# Altium schematic symbol library daniel_schlib.schlib: 12 symbols
Pins are listed as number, name and electrical type; pins without a type are passive.

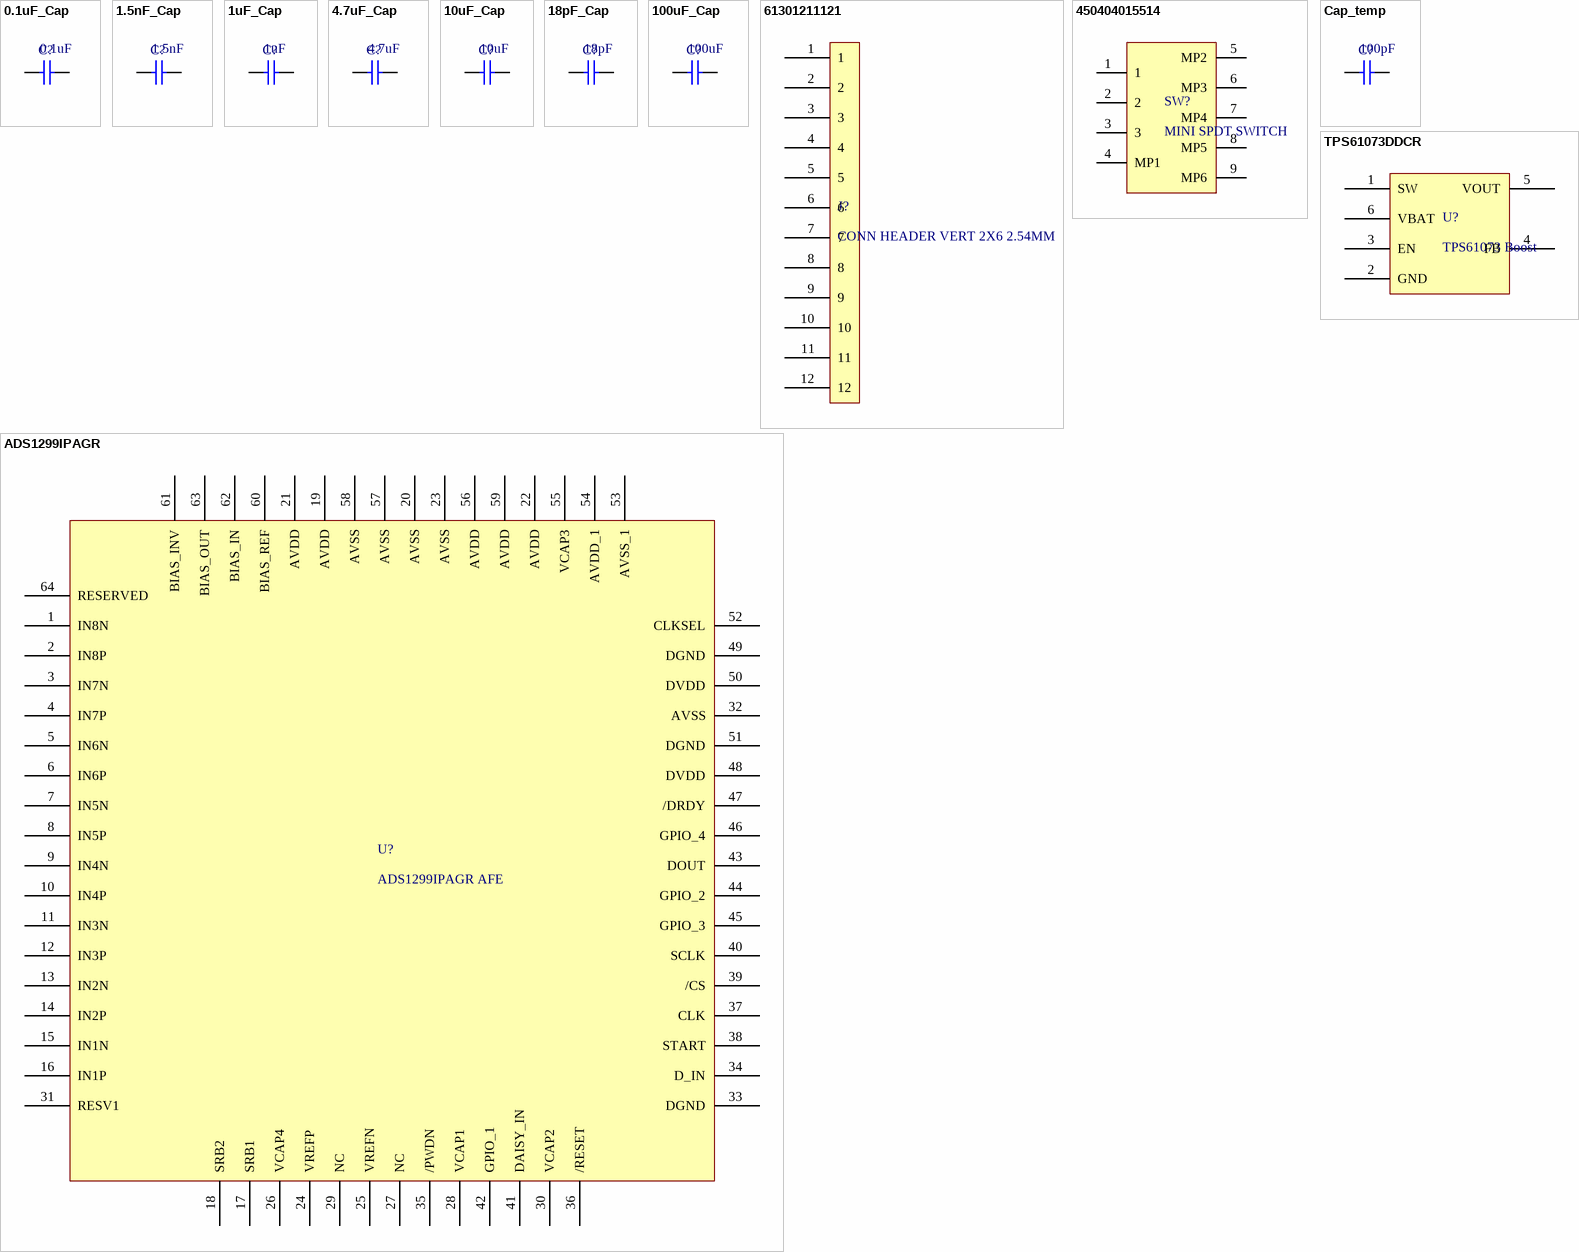
[diagram p0: symbols 0.1uF_Cap to TPS61073DDCR]

## 0.1uF_Cap
designator C?  value 0.1uF
0402 Cap 0.1uF; Manufacturer: Samsung; Manufacturer Part Number: CL05A104KP5NNNC; Capacitance: 100nF; Tolerance: 10%; Voltage Rating: 10V; Dielectric: X5R; Supplier 1: Digi-Key; Stock 1: 12307534; Pricing 1: 1=0.1, 10=0.025, 100=0.0111, 500=0.00794, 1000=0.00624, 2500=0.00568, 5000=0.00522 (USD); Mount: Surface Mount; Case/Package: 0402; Case Code (Metric): 1005; Case Code (Imperial): 0402; Contact Plating: Tin; Min Operating Temperature: -55°C; Max Operating Temperature: 85°C; Packaging: Tape and Reel; Length: 1mm; Height: 0.5mm; Width: 0.02inch; Thickness: 0.022inch; Depth: 0.5mm; Radiation Hardening: No; ComponentLink1URL: https://media.digikey.com/pdf/Data%20Sheets/Samsung%20PDFs/CL_Series_MLCC_ds.pdf?src-supplier=Digi-Key; ComponentLink1Description: https://media.digikey.com/pdf/Data%20Sheets/Samsung%20PDFs/CL_Series_MLCC_ds.pdf?src-supplier=Digi-Key; ComponentLink2URL: https://www.verical.com/server-webapp/html/getDatasheet?partID=358611&src-supplier=Verical; ComponentLink2Description: https://www.verical.com/server-webapp/html/getDatasheet?partID=358611&src-supplier=Verical; ComponentLink3URL: http://www1.futureelectronics.com/doc/SAMSUNG%20PASSIVE/CL05B104KQ5NNNC.pdf?src-supplier=Future+Electronics; ComponentLink3Description: http://www1.futureelectronics.com/doc/SAMSUNG%20PASSIVE/CL05B104KQ5NNNC.pdf?src-supplier=Future+Electronics; ComponentLink4URL: https://www.distrelec.biz/Web/Downloads/_e/ng/MLCC_CatalogDownload2013_ENG.pdf?mime=application%2Fpdf&src-supplier=Distrelec; ComponentLink4Description: https://www.distrelec.biz/Web/Downloads/_e/ng/MLCC_CatalogDownload2013_ENG.pdf?mime=application%2Fpdf&src-supplier=Distrelec; Supplier Part Number 1: 1276-1022-6-ND
simulation model CAP (Capacitor)
signal-integrity model Cap
footprint 0402resistor
pins: 1, 2

## 1.5nF_Cap
designator C?  value 1.5nF
0402 Cap 1.5nF; Manufacturer: Samsung; Manufacturer Part Number: CL05B152KB5NNNC; Material: Ceramic; Tolerance: 10%; Voltage Rating: 50V; Dielectric: X7R; Supplier 1: Digi-Key; Stock 1: 658330; Pricing 1: 1=0.1, 10=0.023, 100=0.0101, 500=0.0072, 1000=0.00566, 2500=0.00514, 5000=0.00473 (USD); Mount: Surface Mount; Case/Package: 0402; Case Code (Metric): 1005; Case Code (Imperial): 0402; Contact Plating: Tin; Min Operating Temperature: -55°C; Max Operating Temperature: 125°C; Package Quantity: 1; Packaging: Tape and Reel; Capacitance: 1.5nF; Voltage: 50V; Length: 1mm; Height: 0.5mm; Width: 0.02inch; Thickness: 0.022inch; Depth: 0.5mm; Radiation Hardening: No; ComponentLink1URL: https://www.verical.com/server-webapp/html/getDatasheet?partID=543173&src-supplier=Verical; ComponentLink1Description: https://www.verical.com/server-webapp/html/getDatasheet?partID=543173&src-supplier=Verical; ComponentLink2URL: http://www1.futureelectronics.com/doc/SAMSUNG/CL05B152KB5NNNC.pdf?src-supplier=Future+Electronics; ComponentLink2Description: http://www1.futureelectronics.com/doc/SAMSUNG/CL05B152KB5NNNC.pdf?src-supplier=Future+Electronics; ComponentLink3URL: https://www.distrelec.biz/Web/Downloads/_e/ng/MLCC_CatalogDownload2013_ENG.pdf?mime=application%2Fpdf&src-supplier=Distrelec; ComponentLink3Description: https://www.distrelec.biz/Web/Downloads/_e/ng/MLCC_CatalogDownload2013_ENG.pdf?mime=application%2Fpdf&src-supplier=Distrelec; ComponentLink4URL: https://produktinfo.conrad.com/datenblaetter/450000-474999/459134-da-01-en-VS_KONDENSATOR_0402.pdf?src-supplier=Conrad; ComponentLink4Description: https://produktinfo.conrad.com/datenblaetter/450000-474999/459134-da-01-en-VS_KONDENSATOR_0402.pdf?src-supplier=Conrad; Supplier Part Number 1: 1276-1521-6-ND
simulation model CAP (Capacitor)
signal-integrity model Cap
footprint 0402resistor
pins: 1, 2

## 1uF_Cap
designator C?  value 1uF
0402 Cap 1uF; Manufacturer: Murata; Manufacturer Part Number: GRM153R61A105ME95D; Material: Ceramic; Tolerance: 20%; Voltage Rating: 10V; Dielectric: X5R; Supplier 1: Digi-Key; Stock 1: 43822; Pricing 1: 1=0.19, 10=0.131, 100=0.0663, 500=0.04538, 1000=0.04015, 2500=0.0384, 5000=0.03491 (USD); Mount: Surface Mount; Case/Package: 0402; Weight: 0.000212oz; Case Code (Metric): 1005; Case Code (Imperial): 0402; Min Operating Temperature: -55°C; Max Operating Temperature: 85°C; Capacitance: 1uF; Packaging: Tape and Reel; Termination: SMD/SMT; Composition: Ceramic; Voltage Rating (DC): 10V; Package Quantity: 10000; Length: 1mm; Height: 0.3mm; Width: 0.5mm; Thickness: 0.013inch; REACH SVHC: No SVHC; ComponentLink1URL: http://www.farnell.com/datasheets/1666664.pdf?src-supplier=Element14; ComponentLink1Description: http://www.farnell.com/datasheets/1666664.pdf?src-supplier=Element14; Supplier Part Number 1: 490-14577-6-ND
simulation model CAP (Capacitor)
signal-integrity model Cap
footprint 0402resistor
pins: 1, 2

## 4.7uF_Cap
designator C?  value 4.7uF
0402 Cap 4.7uF; Manufacturer: Murata; Manufacturer Part Number: GRM155R61A475MEAAD; Tolerance: 20%; Voltage Rating: 10V; Supplier 1: Digi-Key; Stock 1: 848000; Pricing 1: 1=0.25, 10=0.169, 100=0.0856, 500=0.05854, 1000=0.05179, 2500=0.04954, 5000=0.04503 (USD); Mount: Surface Mount; Case/Package: 0402; Case Code (Imperial): 0402; Case Code (Metric): 1005; Min Operating Temperature: -55°C; Max Operating Temperature: 85°C; Packaging: Tape and Reel; Capacitance: 4.7uF; ComponentLink1URL: http://www.farnell.com/datasheets/2189109.pdf?src-supplier=Farnell; ComponentLink1Description: http://www.farnell.com/datasheets/2189109.pdf?src-supplier=Farnell; ComponentLink2URL: https://search.murata.co.jp/Ceramy/image/img/A01X/G101/ENG/GRM155R61A475MEAA-01.pdf?src-supplier=Digi-Key; ComponentLink2Description: https://search.murata.co.jp/Ceramy/image/img/A01X/G101/ENG/GRM155R61A475MEAA-01.pdf?src-supplier=Digi-Key; ComponentLink3URL: http://www.farnell.com/datasheets/2189109.pdf?src-supplier=Element14; ComponentLink3Description: http://www.farnell.com/datasheets/2189109.pdf?src-supplier=Element14; ComponentLink4URL: http://www.farnell.com/datasheets/2189109.pdf?src-supplier=Newark; ComponentLink4Description: http://www.farnell.com/datasheets/2189109.pdf?src-supplier=Newark; ComponentLink5URL: http://datasheet.octopart.com/GRM155R61A475MEAAD-Murata-datasheet-138740730.pdf?src-supplier=Ciiva+Crawler; ComponentLink5Description: http://datasheet.octopart.com/GRM155R61A475MEAAD-Murata-datasheet-138740730.pdf?src-supplier=Ciiva+Crawler; ComponentLink6URL: http://datasheet.octopart.com/GRM155R61A475MEAAD-Murata-datasheet-68589269.pdf?src-supplier=Newark; ComponentLink6Description: http://datasheet.octopart.com/GRM155R61A475MEAAD-Murata-datasheet-68589269.pdf?src-supplier=Newark; ComponentLink7URL: http://datasheet.octopart.com/GRM155R61A475MEAAD-Murata-datasheet-8819587.pdf; ComponentLink7Description: http://datasheet.octopart.com/GRM155R61A475MEAAD-Murata-datasheet-8819587.pdf; ComponentLink8URL: http://datasheet.octopart.com/GRM155R61A475MEAAD-Murata-datasheet-10025737.pdf; ComponentLink8Description: http://datasheet.octopart.com/GRM155R61A475MEAAD-Murata-datasheet-10025737.pdf; ComponentLink9URL: http://datasheet.octopart.com/GRM155R61A475MEAAD-Murata-datasheet-11978611.pdf; ComponentLink9Description: http://datasheet.octopart.com/GRM155R61A475MEAAD-Murata-datasheet-11978611.pdf; ComponentLink10URL: http://datasheet.octopart.com/GRM155R61A475MEAAD-Murata-datasheet-12510076.pdf; ComponentLink10Description: http://datasheet.octopart.com/GRM155R61A475MEAAD-Murata-datasheet-12510076.pdf; ComponentLink11URL: http://datasheet.octopart.com/GRM155R61A475MEAAD-Murata-datasheet-12515295.pdf; ComponentLink11Description: http://datasheet.octopart.com/GRM155R61A475MEAAD-Murata-datasheet-12515295.pdf; Supplier Part Number 1: 490-14306-6-ND
simulation model CAP (Capacitor)
signal-integrity model Cap
footprint 0402resistor
pins: 1, 2

## 10uF_Cap
designator C?  value 10uF
0402 Cap 10uF; Manufacturer: Samsung; Manufacturer Part Number: CL05A106MP5NUNC; Tolerance: 20%; Voltage Rating: 10V; Dielectric: X5R; Supplier 1: Digi-Key; Stock 1: 3276370; Pricing 1: 1=0.42, 10=0.295, 100=0.1943, 500=0.14392, 1000=0.12233, 2500=0.11514, 5000=0.10794 (USD); Mount: Surface Mount; Case/Package: 0402; Case Code (Metric): 1005; Case Code (Imperial): 0402; Contact Plating: Tin; Min Operating Temperature: -55°C; Max Operating Temperature: 85°C; Package Quantity: 1; Packaging: Tape and Reel; Capacitance: 10uF; Termination: Wraparound; Length: 1mm; Width: 0.02inch; Thickness: 0.028inch; Depth: 0.5mm; Radiation Hardening: No; Lead Free: Lead Free; ComponentLink1URL: https://media.digikey.com/pdf/Data%20Sheets/Samsung%20PDFs/CL_Series_MLCC_ds.pdf?src-supplier=Digi-Key; ComponentLink1Description: https://media.digikey.com/pdf/Data%20Sheets/Samsung%20PDFs/CL_Series_MLCC_ds.pdf?src-supplier=Digi-Key; ComponentLink2URL: https://www.verical.com/server-webapp/html/getDatasheet?partID=745310&src-supplier=Verical; ComponentLink2Description: https://www.verical.com/server-webapp/html/getDatasheet?partID=745310&src-supplier=Verical; Supplier Part Number 1: 1276-1450-6-ND
simulation model CAP (Capacitor)
signal-integrity model Cap
footprint 0402resistor
pins: 1, 2

## 18pF_Cap
designator C?  value 18pF
0402 Cap 18pF; Manufacturer: KEMET; Manufacturer Part Number: C0402C180K5RAC7867; Supplier 1: Digi-Key; Stock 1: 3569; Pricing 1: 1=0.21, 10=0.142, 100=0.0721, 500=0.04934, 1000=0.04364, 2500=0.04174, 5000=0.03795 (USD); Supplier Part Number 1: 399-19371-6-ND; ComponentLink1Description: digikey link; ComponentLink1URL: https://www.digikey.ca/product-detail/en/kemet/C0402C180K5RAC7867/399-19371-1-ND/9694278
simulation model CAP (Capacitor)
signal-integrity model Cap
footprint 0402resistor
pins: 1, 2

## 100uF_Cap
designator C?  value 100uF
1206 Cap 100uF; Manufacturer: Murata; Manufacturer Part Number: GRM31CR60J107ME39L; Material: Ceramic; Tolerance: 20%; Voltage Rating: 6.3V; Dielectric: X5R; Supplier 1: Digi-Key; Stock 1: 1307168; Pricing 1: 1=1.08, 10=0.852, 100=0.6386, 500=0.48254, 1000=0.42577 (USD); Mount: Surface Mount; Case/Package: 1206; Case Code (Imperial): 1206; Case Code (Metric): 3216; Min Operating Temperature: -55°C; Max Operating Temperature: 85°C; Capacitance: 100uF; Packaging: Tape and Reel; Voltage Rating (DC): 6.3V; Package Quantity: 1; Termination: SMD/SMT; Voltage: 6.3V; Length: 3.2mm; Height: 1.6mm; Width: 1.6mm; Thickness: 0.071inch; Depth: 1.6mm; Radiation Hardening: No; REACH SVHC: No SVHC; Lead Free: Lead Free; ComponentLink1URL: http://uk.rs-online.com/webdocs/1388/0900766b813885c5.pdf?src-supplier=RSComponents; ComponentLink1Description: http://uk.rs-online.com/webdocs/1388/0900766b813885c5.pdf?src-supplier=RSComponents; ComponentLink2URL: http://components.arrow.com/part/dataview/42788059S8888100N2606?src-supplier=Arrow; ComponentLink2Description: http://components.arrow.com/part/dataview/42788059S8888100N2606?src-supplier=Arrow; ComponentLink3URL: http://www.mouser.com/ds/2/281/c02e-2905.pdf?src-supplier=Mouser; ComponentLink3Description: http://www.mouser.com/ds/2/281/c02e-2905.pdf?src-supplier=Mouser; ComponentLink4URL: https://www.murata.com/~/media/webrenewal/support/library/catalog/products/capacitor/mlcc/c02e.ashx?la=en-us&src-supplier=Digi-Key; ComponentLink4Description: https://www.murata.com/~/media/webrenewal/support/library/catalog/products/capacitor/mlcc/c02e.ashx?la=en-us&src-supplier=Digi-Key; ComponentLink5URL: http://psearch.murata.com/capacitor/product/GRM31CF51A226ZE01%23.pdf?src-supplier=Future+Electronics; ComponentLink5Description: http://psearch.murata.com/capacitor/product/GRM31CF51A226ZE01%23.pdf?src-supplier=Future+Electronics; ComponentLink6URL: https://www.distrelec.biz/Web/Downloads/_t/ds/murata_MLCC_eng_tds.pdf?mime=application%2Fpdf&src-supplier=Distrelec; ComponentLink6Description: https://www.distrelec.biz/Web/Downloads/_t/ds/murata_MLCC_eng_tds.pdf?mime=application%2Fpdf&src-supplier=Distrelec; ComponentLink7URL: http://www.produktinfo.conrad.com/datenblaetter/450000-474999/454804-da-01-en-VS_KONDENSATOR_1206.pdf?src-supplier=Conrad; ComponentLink7Description: http://www.produktinfo.conrad.com/datenblaetter/450000-474999/454804-da-01-en-VS_KONDENSATOR_1206.pdf?src-supplier=Conrad; ComponentLink8URL: http://www.produktinfo.conrad.com/datenblaetter/450000-474999/451152-da-01-de-VS_CHIP_KOND_1206_100_0_UF_20Pr_6_3V_X5R.pdf?src-supplier=Conrad; ComponentLink8Description: http://www.produktinfo.conrad.com/datenblaetter/450000-474999/451152-da-01-de-VS_CHIP_KOND_1206_100_0_UF_20Pr_6_3V_X5R.pdf?src-supplier=Conrad; Supplier Part Number 1: 490-4539-6-ND
simulation model CAP (Capacitor)
signal-integrity model Cap
footprint 1206resistor
pins: 1, 2

## 61301211121
designator J?, comment CONN HEADER VERT 2X6 2.54MM
WURTH ELEKTRONIK         61301211121            Board-To-Board Connector, Vertical, WR-PHD Series, Through Hole, Header, 12 Contacts, 2.54 mm; Manufacturer: Wurth Electronics; Number of Positions: 12; Gender: Male; Connector Type: Male Pin; Pitch: 0.1inch; Supplier 1: Digi-Key; Manufacturer Part Number: 61301211121; Stock 1: 334; Pricing 1: 1=0.54, 10=0.454, 25=0.3792, 50=0.316, 100=0.287, 1000=0.261 (USD); Mount: Through Hole; Contact Plating: Gold; Contact Material: Copper; Color: Black; Number of Rows: 1; Packaging: Bulk; Termination: Solder; Number of Contacts: 12; Contact Mating Length: 0.236inch; REACH SVHC: Unknown; ComponentLink1URL: http://www.farnell.com/cad/1737268.pdf?src-supplier=Element14; ComponentLink1Description: http://www.farnell.com/cad/1737268.pdf?src-supplier=Element14; ComponentLink2URL: https://katalog.we-online.de/em/datasheet/6130xx11121.pdf?src-supplier=Digi-Key; ComponentLink2Description: https://katalog.we-online.de/em/datasheet/6130xx11121.pdf?src-supplier=Digi-Key; Supplier Part Number 1: 732-5323-ND
footprint HDR1X12
pins: 1, 2, 3, 4, 5, 6, 7, 8, 9, 10, 11, 12

## 450404015514
designator SW?, comment MINI SPDT SWITCH
MINI SPDT SLIDE SWITCH 6.7 X 2.7 MM / PINS 4-9 ARE MOUNTING; Manufacturer: Wurth Electronics; Manufacturer Part Number: 450404015514; Supplier 1: Digi-Key; Stock 1: 2610; Pricing 1: 1=0.75, 25=0.7212, 50=0.688, 250=0.622, 1500=0.5461 (USD); Supplier Part Number 1: 732-13665-6-ND; ComponentLink1Description: digikey; ComponentLink1URL: https://www.digikey.ca/product-detail/en/w-rth-elektronik/450404015514/732-13665-1-ND/9950835
footprint SW_SPDT
pins: 1, 2, 3, 4 MP1, 5 MP2, 6 MP3, 7 MP4, 8 MP5, 9 MP6

## ADS1299IPAGR
designator U?, comment ADS1299IPAGR AFE
IC AFE 24BIT 16KSPS LN 64TQFP; Manufacturer: Texas Instruments; Max Supply Voltage: 5.25V; Max Power Dissipation: 42mW; Interface: SPI; Number of Bits: 24; Number of Channels: 8; Resolution: 24b; Sampling Rate: 16KS/s; Operating Supply Current: 7.14mA; Signal to Noise Ratio (SNR): 121dB; Power Consumption: 41mW; Supplier 1: Digi-Key; Manufacturer Part Number: ADS1299IPAGR; Stock 1: 1589; Pricing 1: 1=53.84, 10=50.577, 100=44.051 (USD); Case/Package: TQFP; Number of Pins: 64; Contact Plating: Gold; Min Operating Temperature: -40°C; Max Operating Temperature: 85°C; Package Quantity: 1; Packaging: Tape and Reel; Number of Converters: 8; Conversion Rate: 16KS/s; Number of Inputs: 8; Number of A/D Converters: 8; Type: General Purpose; Radiation Hardening: No; Lead Free: Lead Free; ComponentLink1URL: http://www.ti.com/lit/ds/symlink/ads1299.pdf?src-supplier=Digi-Key; ComponentLink1Description: http://www.ti.com/lit/ds/symlink/ads1299.pdf?src-supplier=Digi-Key; ComponentLink2URL: http://www.ti.com/general/docs/lit/getliterature.tsp?genericPartNumber=ADS1299&&fileType=pdf&src-supplier=Avnet; ComponentLink2Description: http://www.ti.com/general/docs/lit/getliterature.tsp?genericPartNumber=ADS1299&&fileType=pdf&src-supplier=Avnet; ComponentLink3URL: https://www.verical.com/server-webapp/html/getDatasheet?partID=681922&src-supplier=Verical; ComponentLink3Description: https://www.verical.com/server-webapp/html/getDatasheet?partID=681922&src-supplier=Verical; ComponentLink4URL: http://www.ti.com/litv/sbas499a?src-supplier=Mouser; ComponentLink4Description: http://www.ti.com/litv/sbas499a?src-supplier=Mouser; ComponentLink5URL: http://www.produktinfo.conrad.com/datenblaetter/1100000-1199999/001186463-da-01-en-IC_AFE_24BIT_16_ADS1299IPAGR_TQFP_64_TID.pdf?src-supplier=Conrad; ComponentLink5Description: http://www.produktinfo.conrad.com/datenblaetter/1100000-1199999/001186463-da-01-en-IC_AFE_24BIT_16_ADS1299IPAGR_TQFP_64_TID.pdf?src-supplier=Conrad; Supplier Part Number 1: 296-34818-6-ND; Category: Data Acquisition - Analog Front End (AFE)
pins: 1 IN8N, 2 IN8P, 3 IN7N, 4 IN7P, 5 IN6N, 6 IN6P, 7 IN5N, 8 IN5P, 9 IN4N, 10 IN4P, 11 IN3N, 12 IN3P, 13 IN2N, 14 IN2P, 15 IN1N, 16 IN1P, 17 SRB1, 18 SRB2, 19 AVDD (power), 20 AVSS (power), 21 AVDD (power), 22 AVDD (power), 23 AVSS (power), 24 VREFP, 25 VREFN, 26 VCAP4, 27 NC, 28 VCAP1, 29 NC, 30 VCAP2, 31 RESV1, 32 AVSS (power), 33 DGND (power), 34 D_IN, 35 /PWDN, 36 /RESET, 37 CLK, 38 START, 39 /CS, 40 SCLK, 41 DAISY_IN, 42 GPIO_1, 43 DOUT, 44 GPIO_2, 45 GPIO_3, 46 GPIO_4, 47 /DRDY, 48 DVDD (power), 49 DGND (power), 50 DVDD (power), 51 DGND (power), 52 CLKSEL, 53 AVSS_1 (power), 54 AVDD_1 (power), 55 VCAP3, 56 AVDD (power), 57 AVSS (power), 58 AVSS (power), 59 AVDD (power), 60 BIAS_REF, 61 BIAS_INV, 62 BIAS_IN, 63 BIAS_OUT, 64 RESERVED

## Cap_temp
designator C?  value 100pF
0402 Cap 10uF
simulation model CAP (Capacitor)
signal-integrity model Cap
footprint 0402resistor
pins: 1, 2

## TPS61073DDCR
designator U?, comment TPS61073 Boost
IC REG BOOST ADJ 0.5A SYNC SOT6; Manufacturer: Texas Instruments; Manufacturer Part Number: TPS61073DDCR; Output Voltage: 5.5V; Number of Outputs: 1; Max Output Current: 150mA; Min Input Voltage: 900mV; Efficiency: 90%; Frequency: 1.2MHz; Min Supply Voltage: 2.3V; Synchronous Rectifier: Yes; Quiescent Current: 19uA; Output Type: Adjustable; Output Configuration: Positive; Supplier 1: Digi-Key; Stock 1: 6000; Pricing 1: 3000=0.52668, 6000=0.50688, 15000=0.49104 (USD); Mount: Surface Mount; Case/Package: SOT-23-6; Number of Pins: 6; Weight: 0.00127oz; Min Operating Temperature: -40°C; Max Operating Temperature: 85°C; Packaging: Tape and Reel; Max Input Voltage: 5.5V; Output Current: 150mA; Max Supply Voltage: 5.5V; Package Quantity: 1; Switching Frequency: 1.2MHz; Min Output Voltage: 2.3V; Max Output Voltage: 5.5V; Termination: SMD/SMT; Topology: Boost; REACH SVHC: No SVHC; Lead Free: Lead Free; ComponentLink1URL: http://focus.ti.com/lit/ds/symlink/tps61070.pdf?src-supplier=Element14; ComponentLink1Description: http://focus.ti.com/lit/ds/symlink/tps61070.pdf?src-supplier=Element14; ComponentLink2URL: http://www.ti.com/lit/ds/symlink/tps61073.pdf?src-supplier=Digi-Key; ComponentLink2Description: http://www.ti.com/lit/ds/symlink/tps61073.pdf?src-supplier=Digi-Key; Supplier Part Number 1: 296-21898-2-ND; Category: PMIC - Voltage Regulators - DC DC Switching Regulators
pins: 1 SW, 2 GND (power), 3 EN, 4 FB, 5 VOUT (power), 6 VBAT (power)